# EAGLE library part BMP-280 (library zeled)
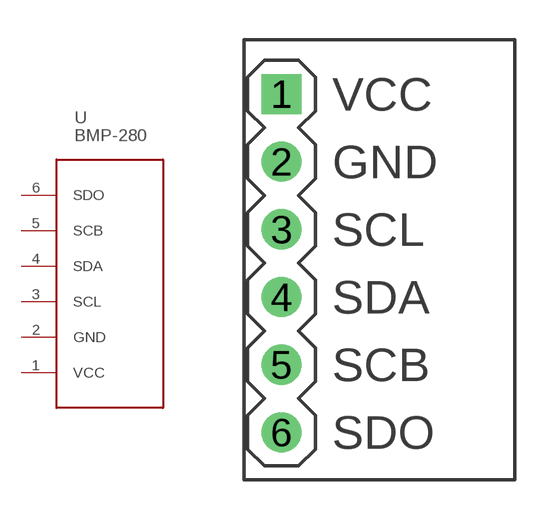
[diagram p3: symbol with the pads of BPM-280; footprint BPM-280]

Designator prefix -

## BMP-280  [BPM-280]
1  VCC  pwr
2  GND  pwr
3  SCL
4  SDA
5  SCB
6  SDO

## Footprint BPM-280 (pad centres in mm)
drill 1 square: 1 1.397,14.478
drill 1: 2 1.397,11.938; 3 1.397,9.398; 4 1.397,6.858; 5 1.397,4.318; 6 1.397,1.778